# Altium footprint library PcbLib1.PcbLib: 7 footprints
Each footprint in its own frame and in the unit in brackets; x right, y up, seen from the top. Pads: shape width x height; smd on the part's side, far side on the other; paste and mask are expansions set on the pad; w line width, h text height; cw(c..) or ccw(c..) is an arc to the next point about the centre after c.
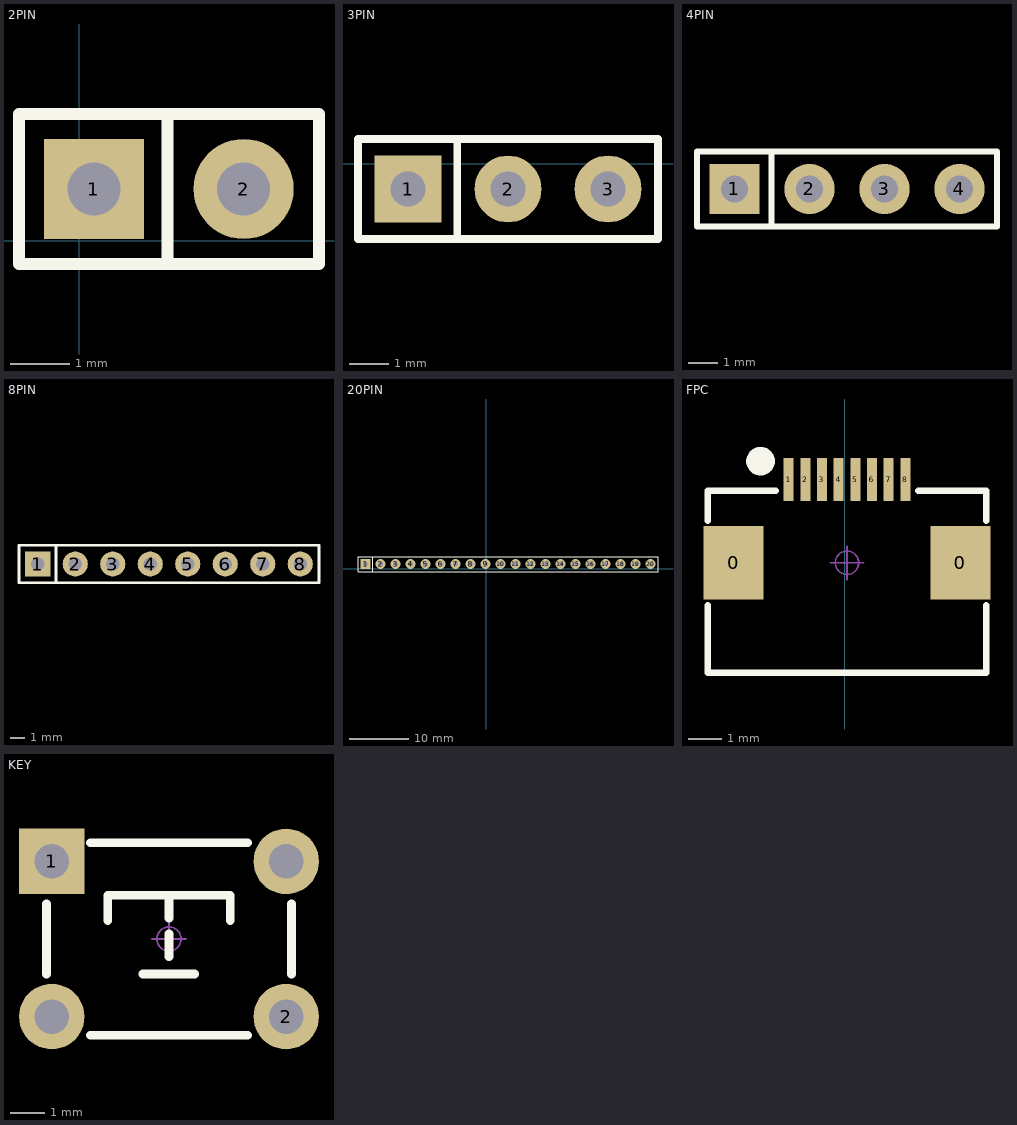
[diagram p0: the footprints below, top view; thin cyan lines are the x and y axes]

## 2PIN [mm]
pads (2):
  rect 1.7x1.7 hole 0.9: 1(0.245,0.882)
  round 1.7 hole 0.9: 2(2.785,0.882)
Top Overlay:
  lines w0.2: 0.753,2.152 4.064,2.152 4.064,-0.388 -1.025,-0.388 -1.025,2.152 0.88,2.152 ; 1.495,-0.368 1.495,2.132
3D body "HDR2.54-1P.STEP": height 8.5, standoff -3, extent -1.025,-0.388 1.515,2.152
3D body "HDR2.54-1P.STEP": height 8.5, standoff -3, extent 1.515,-0.388 4.055,2.152

## 3PIN [mm]
pads (3):
  rect 1.7x1.7 hole 0.9: 1(-7.756,-0.642)
  round 1.7 hole 0.9: 2(-5.216,-0.642) 3(-2.676,-0.642)
Top Overlay:
  lines w0.2: -7.248,0.628 -1.406,0.628 -1.406,-1.912 -9.026,-1.912 -9.026,0.628 -7.121,0.628 ; -6.506,-1.892 -6.506,0.608
3D body "HDR2.54-1P.STEP": height 8.5, standoff -3, extent -3.946,-1.912 -1.406,0.628
3D body "HDR2.54-1P.STEP": height 8.5, standoff -3, extent -9.026,-1.912 -6.486,0.628
3D body "HDR2.54-1P.STEP": height 8.5, standoff -3, extent -6.486,-1.912 -3.946,0.628

## 4PIN [mm]
pads (4):
  rect 1.7x1.7 hole 0.9: 1(-582.803,91.186)
  round 1.7 hole 0.9: 2(-580.263,91.186) 3(-577.723,91.186) 4(-575.183,91.186)
Top Overlay:
  lines w0.2: -581.553,89.936 -581.553,92.436 ; -584.073,89.916 -584.073,92.456 -582.168,92.456 -573.913,92.456 -573.913,89.916 -584.073,89.916
3D body "HDR2.54-1P.STEP": height 8.5, standoff -3, extent -581.533,89.916 -578.993,92.456
3D body "HDR2.54-1P.STEP": height 8.5, standoff -3, extent -584.073,89.916 -581.533,92.456
3D body "HDR2.54-1P.STEP": height 8.5, standoff -3, extent -576.453,89.916 -573.913,92.456
3D body "HDR2.54-1P.STEP": height 8.5, standoff -3, extent -578.993,89.916 -576.453,92.456

## 8PIN [mm] "U?"
pads (8):
  rect 1.7x1.7 hole 0.9: 1(11.557,-15.367)
  round 1.7 hole 0.9: 2(14.097,-15.367) 3(16.637,-15.367) 4(19.177,-15.367) 5(21.717,-15.367) 6(24.257,-15.367) 7(26.797,-15.367) 8(29.337,-15.367)
Top Overlay:
  lines w0.2: 12.807,-16.617 12.807,-14.117 ; 10.287,-16.637 10.287,-14.097 12.192,-14.097 30.607,-14.097 30.607,-16.637 10.287,-16.637
3D body "HDR2.54-1P.STEP": height 8.5, standoff -3, extent 12.827,-16.637 15.367,-14.097
3D body "HDR2.54-1P.STEP": height 8.5, standoff -3, extent 10.287,-16.637 12.827,-14.097
3D body "HDR2.54-1P.STEP": height 8.5, standoff -3, extent 17.907,-16.637 20.447,-14.097
3D body "HDR2.54-1P.STEP": height 8.5, standoff -3, extent 15.367,-16.637 17.907,-14.097
3D body "HDR2.54-1P.STEP": height 8.5, standoff -3, extent 20.447,-16.637 22.987,-14.097
3D body "HDR2.54-1P.STEP": height 8.5, standoff -3, extent 25.527,-16.637 28.067,-14.097
3D body "HDR2.54-1P.STEP": height 8.5, standoff -3, extent 22.987,-16.637 25.527,-14.097
3D body "HDR2.54-1P.STEP": height 8.5, standoff -3, extent 28.067,-16.637 30.607,-14.097

## 20PIN [mm] "P?"
pads (20):
  rect 1.7x1.7 hole 0.9: 1(-20.447,0.762)
  round 1.7 hole 0.9: 2(-17.907,0.762) 3(-15.367,0.762) 4(-12.827,0.762) 5(-10.287,0.762) 6(-7.747,0.762) 7(-5.207,0.762) 8(-2.667,0.762) 9(-0.127,0.762) 10(2.413,0.762) 11(4.953,0.762) 12(7.493,0.762) 13(10.033,0.762) 14(12.573,0.762) 15(15.113,0.762) 16(17.653,0.762)
  round 1.7 hole 0.762: 17(20.193,0.762) 18(22.733,0.762) 19(25.273,0.762) 20(27.813,0.762)
Top Overlay:
  lines w0.2: -19.197,-0.488 -19.197,2.012 ; -21.717,-0.508 -21.717,2.032 -19.812,2.032 29.083,2.032 29.083,-0.508 -21.717,-0.508
3D body "HDR2.54-1P.STEP": height 8.5, standoff -3, extent -19.177,-0.508 -16.637,2.032
3D body "HDR2.54-1P.STEP": height 8.5, standoff -3, extent -21.717,-0.508 -19.177,2.032
3D body "HDR2.54-1P.STEP": height 8.5, standoff -3, extent -14.097,-0.508 -11.557,2.032
3D body "HDR2.54-1P.STEP": height 8.5, standoff -3, extent -16.637,-0.508 -14.097,2.032
3D body "HDR2.54-1P.STEP": height 8.5, standoff -3, extent -11.557,-0.508 -9.017,2.032
3D body "HDR2.54-1P.STEP": height 8.5, standoff -3, extent -6.477,-0.508 -3.937,2.032
3D body "HDR2.54-1P.STEP": height 8.5, standoff -3, extent -9.017,-0.508 -6.477,2.032
3D body "HDR2.54-1P.STEP": height 8.5, standoff -3, extent -1.397,-0.508 1.143,2.032
3D body "HDR2.54-1P.STEP": height 8.5, standoff -3, extent -3.937,-0.508 -1.397,2.032
3D body "HDR2.54-1P.STEP": height 8.5, standoff -3, extent 1.143,-0.508 3.683,2.032
3D body "HDR2.54-1P.STEP": height 8.5, standoff -3, extent 6.223,-0.508 8.763,2.032
3D body "HDR2.54-1P.STEP": height 8.5, standoff -3, extent 3.683,-0.508 6.223,2.032
3D body "HDR2.54-1P.STEP": height 8.5, standoff -3, extent 11.303,-0.508 13.843,2.032
3D body "HDR2.54-1P.STEP": height 8.5, standoff -3, extent 8.763,-0.508 11.303,2.032
3D body "HDR2.54-1P.STEP": height 8.5, standoff -3, extent 13.843,-0.508 16.383,2.032
3D body "HDR2.54-1P.STEP": height 8.5, standoff -3, extent 18.923,-0.508 21.463,2.032
3D body "HDR2.54-1P.STEP": height 8.5, standoff -3, extent 16.383,-0.508 18.923,2.032
3D body "HDR2.54-1P.STEP": height 8.5, standoff -3, extent 24.003,-0.508 26.543,2.032
3D body "HDR2.54-1P.STEP": height 8.5, standoff -3, extent 21.463,-0.508 24.003,2.032
3D body "HDR2.54-1P.STEP": height 8.5, standoff -3, extent 26.543,-0.508 29.083,2.032

## FPC [mm] "U?"
pads (10):
  rect 1.8x2.2 smd: 0(-3.335,-34.77) 0(3.465,-34.77)
  rect 0.3x1.3 smd: 1(-1.685,-32.273) 2(-1.185,-32.273) 3(-0.685,-32.273) 4(-0.185,-32.273) 5(0.315,-32.273) 6(0.815,-32.273) 7(1.315,-32.273) 8(1.815,-32.273)
Top Overlay:
  circle w0.5: c-2.528,-31.722 r0.18
  lines w0.2: -4.11,-36.04 -4.11,-38.072 4.24,-38.072 4.24,-36.04 ; -4.11,-33.5 -4.11,-32.611 -2.078,-32.611 ; 2.208,-32.611 4.24,-32.611 4.24,-33.5
Mechanical 15:
  circle w0.05: c0.065,-34.77 r0.35
  lines w0.05: -0.435,-34.77 0.565,-34.77 ; 0.065,-35.27 0.065,-34.27
3D body "FPC0.5 2H-S-W-8P.STEP": height 2, standoff -0.01, extent -3.683,-38.258 4.517,-32.258

## KEY [mm] "按键"
pads (4):
  rect 1.9x1.9 hole 1: 1(24.794,-22.388)
  round 1.9 hole 1: 2(31.594,-26.888) ""(24.794,-26.888) ""(31.594,-22.388)
Top Overlay:
  lines w0.254: 24.638,-25.654 24.638,-23.622 ; 25.908,-27.432 30.48,-27.432 ; 25.908,-21.844 30.48,-21.844 ; 26.416,-24.105 26.416,-23.368 29.972,-23.368 29.972,-24.105 ; 27.432,-25.654 28.931,-25.654 ; 28.194,-25.146 28.194,-24.486 ; 28.194,-24.028 28.194,-23.368 ; 31.75,-25.654 31.75,-23.622
Bottom Overlay:
  lines w0.254: 25.908,-26.924 30.48,-26.924 ; 25.908,-22.352 30.48,-22.352
Mechanical 15:
  circle w0.05: c28.194,-24.638 r0.35
  lines w0.05: 27.694,-24.638 28.694,-24.638 ; 28.194,-25.138 28.194,-24.138
3D body "TSW DIP-6x6x5.STEP": height 4.95, standoff -3.45, extent 24.088,-27.638 32.3,-21.638